# Altium footprint library 24V_Power.PcbLib: 12 footprints
Each footprint in its own frame and in the unit in brackets; x right, y up, seen from the top. Pads: shape width x height; smd on the part's side, far side on the other; paste and mask are expansions set on the pad; w line width, h text height; cw(c..) or ccw(c..) is an arc to the next point about the centre after c.
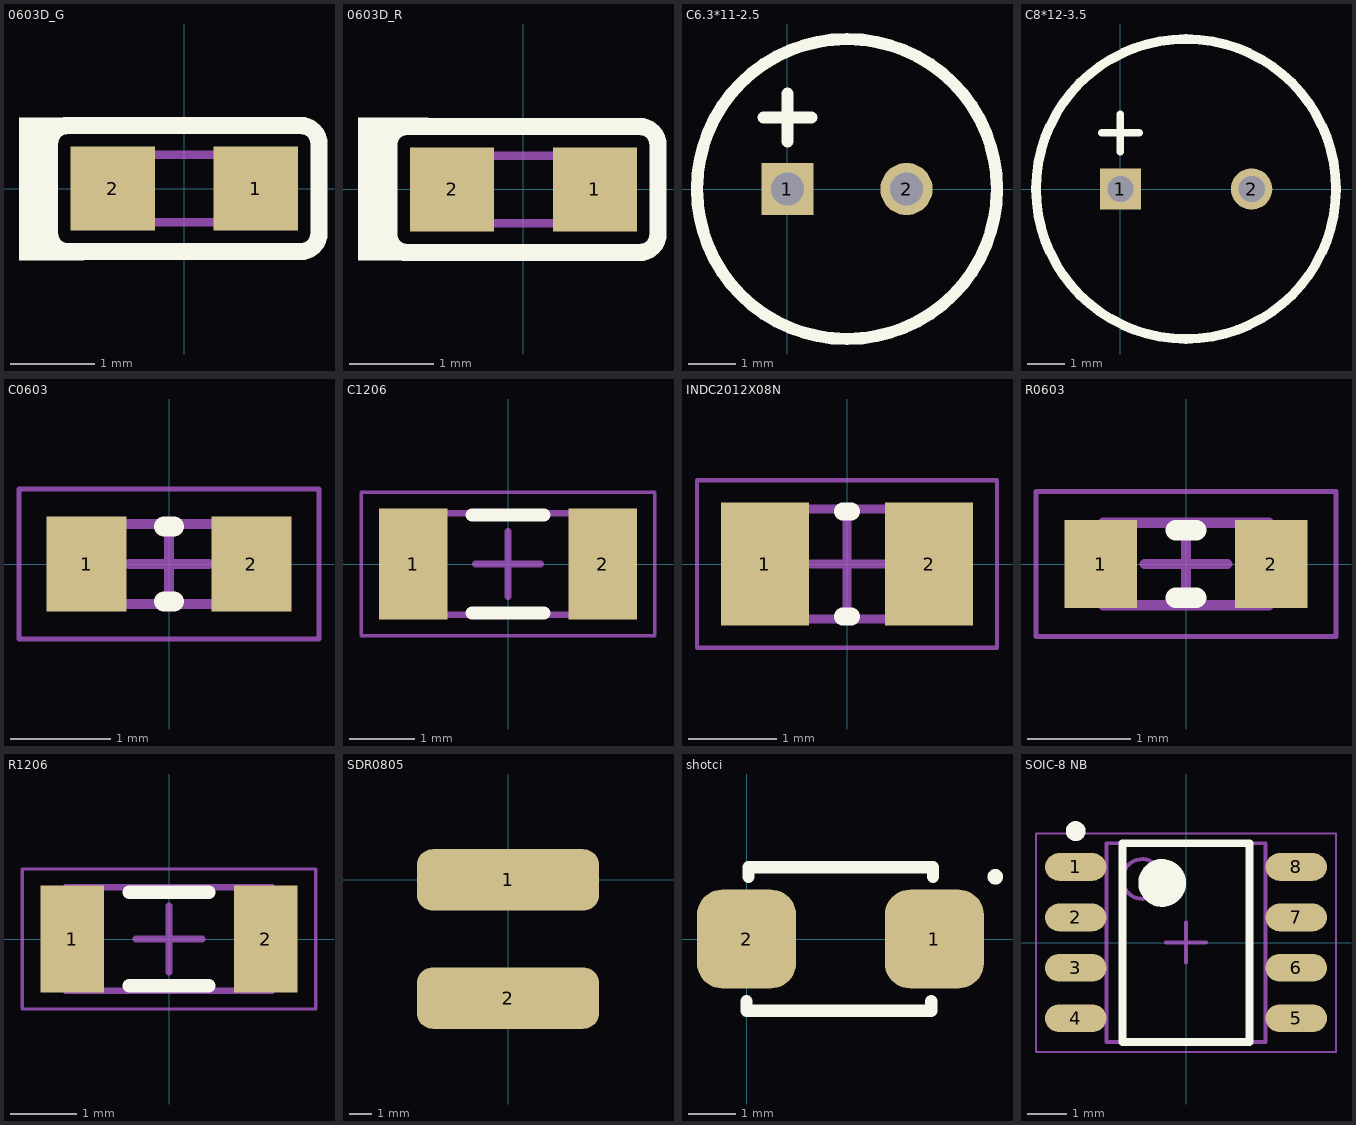
[diagram p0: the footprints below, top view; thin cyan lines are the x and y axes]

## 0603D_G [mm] "LED, SMT, Body 1.6 x 0.8 mm, 0.25mm Thickness"
height 0.25
pads (2):
  rect 1x1 smd paste+0 mask+0: 1(0.85,0) 2(-0.85,0)
Top Overlay:
  rectangle: -1.774,-0.856 -1.19,-0.691
  rectangle: -1.965,-0.856 -1.507,0.846
  rectangle: -1.774,0.66 -1.124,0.846
  lines w0.203: -1.602,-0.533 ccw(c-1.386,-0.533) -1.386,-0.749 1.386,-0.749 ccw(c1.386,-0.533) 1.602,-0.533 1.602,0.533 ccw(c1.386,0.533) 1.386,0.749 -1.386,0.749 ccw(c-1.386,0.533) -1.602,0.533 -1.602,-0.533
Mechanical 7:
  lines w0.1: -0.8,-0.4 0.8,-0.4 0.8,0.4 -0.8,0.4 -0.8,-0.4
3D body: height 0.25, standoff 0.1, extent -0.6,-0.4 0.6,0.4
3D body: height 0.2, standoff 0.15, extent -0.254,-0.254 0.254,0.254
3D body: height 0.1, standoff 0, extent -0.8,-0.4 0.8,0.4

## 0603D_R [mm] "LED, SMT, Body 1.6 x 0.8 mm, 0.25mm Thickness"
height 0.25
pads (2):
  rect 1x1 smd paste+0 mask+0: 1(0.85,0) 2(-0.85,0)
Top Overlay:
  rectangle: -1.779,0.671 -1.129,0.857
  rectangle: -1.969,-0.845 -1.512,0.857
  rectangle: -1.779,-0.845 -1.195,-0.68
  lines w0.203: -1.602,-0.533 ccw(c-1.386,-0.533) -1.386,-0.749 1.386,-0.749 ccw(c1.386,-0.533) 1.602,-0.533 1.602,0.533 ccw(c1.386,0.533) 1.386,0.749 -1.386,0.749 ccw(c-1.386,0.533) -1.602,0.533 -1.602,-0.533
Mechanical 7:
  lines w0.1: -0.8,-0.4 -0.8,0.4 0.8,0.4 0.8,-0.4 -0.8,-0.4
3D body: height 0.1, standoff 0, extent -0.8,-0.4 0.8,0.4
3D body: height 0.2, standoff 0.15, extent -0.254,-0.254 0.254,0.254
3D body: height 0.25, standoff 0.1, extent -0.6,-0.4 0.6,0.4

## C6.3*11-2.5 [mm]
pads (2):
  rect 1.1x1.1 hole 0.7: 1(0,0)
  round 1.1 hole 0.7: 2(2.5,0)
Top Overlay:
  circle w0.254: c1.25,0 r3.15
  lines w0.254: -0.5,1.5 0.5,1.5 ; 0,1 0,2
3D body "User Library-Cap-EL(6_3x11-2_5).STEP": height 11, standoff -3.2, extent -1.85,-3.149 4.452,3.149

## C8*12-3.5 [mm]
pads (2):
  rect 1.1x1.1 hole 0.7: 1(0,0)
  round 1.1 hole 0.7: 2(3.5,0)
Top Overlay:
  circle w0.254: c1.75,0 r4
  lines w0.2: -0.5,1.5 0.5,1.5 ; 0,1 0,2
3D body "User Library-Cap-EL(8x12-3_5)T.STEP": height 12.3, standoff -3.3, extent -2.251,-4 5.751,3.996

## C0603 [mm] "Chip Capacitor, 2-Leads, Body 1.60x0.80mm, IPC Medium Density"
height 0.55
pads (2):
  rect 0.8x0.95 smd: 1(-0.825,0) 2(0.825,0)
Top Overlay:
  lines w0.2: -0.05,-0.375 0.05,-0.375 ; -0.05,0.375 0.05,0.375
Mechanical 13:
  lines w0.1: -0.8,-0.4 -0.8,0.4 0.8,0.4 0.8,-0.4 -0.8,-0.4
Mechanical 15:
  lines w0.05: -1.5,-0.75 -1.5,0.75 1.5,0.75 1.5,-0.75 -1.5,-0.75
  lines w0.1: -0.4,0 0.4,0 ; 0,-0.4 0,0.4
3D body: height 0.55, standoff 0, extent -0.5,-0.4 0.5,0.4
3D body: height 0.55, standoff 0, extent -0.8,-0.4 -0.5,0.4
3D body: height 0.55, standoff 0, extent 0.5,-0.4 0.8,0.4

## C1206 [mm] "Chip Capacitor, 2-Leads, Body 3.10x1.55mm, IPC Medium Density"
height 0.8
pads (2):
  rect 1.05x1.7 smd: 1(-1.45,0) 2(1.45,0)
Top Overlay:
  lines w0.2: -0.55,-0.75 0.55,-0.75 ; -0.55,0.75 0.55,0.75
Mechanical 13:
  lines w0.1: -1.55,-0.775 -1.55,0.775 1.55,0.775 1.55,-0.775 -1.55,-0.775
Mechanical 15:
  lines w0.05: -2.25,-1.1 -2.25,1.1 2.25,1.1 2.25,-1.1 -2.25,-1.1
  lines w0.1: -0.5,0 0.5,0 ; 0,-0.5 0,0.5
3D body: height 0.8, standoff 0, extent -1,-0.775 1,0.775
3D body: height 0.8, standoff 0, extent -1.55,-0.775 -1,0.775
3D body: height 0.8, standoff 0, extent 1,-0.775 1.55,0.775

## INDC2012X08N [mm] "Chip Inductor, 2-Leads, Body 2.00x1.25mm, IPC Medium Density"
height 0.85
pads (2):
  rect 1x1.39 smd: 1(-0.93,0) 2(0.93,0)
Top Overlay:
  lines w0.2: -0.05,-0.595 0.05,-0.595 ; -0.05,0.595 0.05,0.595
Mechanical 13:
  lines w0.1: -1,-0.625 -1,0.625 1,0.625 1,-0.625 -1,-0.625
Mechanical 15:
  lines w0.05: -1.7,-0.95 -1.7,0.95 1.7,0.95 1.7,-0.95 -1.7,-0.95
  lines w0.1: -0.5,0 0.5,0 ; 0,-0.5 0,0.5
3D body: height 0.85, standoff 0, extent -0.5,-0.625 0.5,0.625
3D body: height 0.85, standoff 0, extent -1,-0.625 -0.5,0.625
3D body: height 0.85, standoff 0, extent 0.5,-0.625 1,0.625

## R0603 [mm] "Chip Resistor, 2-Leads, Body 1.60x0.80mm, IPC Medium Density"
height 0.55
pads (2):
  rect 0.7x0.85 smd: 1(-0.825,0) 2(0.825,0)
Top Overlay:
  lines w0.2: -0.1,-0.325 0.1,-0.325 ; -0.1,0.325 0.1,0.325
Mechanical 13:
  lines w0.1: -0.8,-0.4 0.8,-0.4 0.8,0.4 -0.8,0.4 -0.8,-0.4
Mechanical 15:
  lines w0.05: -1.45,-0.7 1.45,-0.7 1.45,0.7 -1.45,0.7 -1.45,-0.7
  lines w0.1: -0.4,0 0.4,0 ; 0,-0.4 0,0.4
3D body: height 0.55, standoff 0, extent 0.5,-0.4 0.8,0.4
3D body: height 0.55, standoff 0, extent -0.8,-0.4 -0.5,0.4
3D body: height 0.55, standoff 0, extent -0.5,-0.4 0.5,0.4

## R1206 [mm] "Chip Resistor, 2-Leads, Body 3.10x1.55mm, IPC Medium Density"
height 0.8
pads (2):
  rect 0.95x1.6 smd: 1(-1.45,0) 2(1.45,0)
Top Overlay:
  lines w0.2: -0.6,-0.7 0.6,-0.7 ; -0.6,0.7 0.6,0.7
Mechanical 13:
  lines w0.1: -1.55,-0.775 1.55,-0.775 1.55,0.775 -1.55,0.775 -1.55,-0.775
Mechanical 15:
  lines w0.05: -2.2,-1.05 2.2,-1.05 2.2,1.05 -2.2,1.05 -2.2,-1.05
  lines w0.1: -0.5,0 0.5,0 ; 0,-0.5 0,0.5
3D body: height 0.8, standoff 0, extent 1,-0.775 1.55,0.775
3D body: height 0.8, standoff 0, extent -1.55,-0.775 -1,0.775
3D body: height 0.8, standoff 0, extent -1,-0.775 1,0.775

## SDR0805 [mm]
pads (2):
  rrect50% 8x2.7 smd: 1(0,0) 2(0,-5.2)
3D body "User Library-SDR0805.STEP": height 5.05, standoff 0, extent -3.75,-6.277 3.75,1.077

## shotci [mm]
pads (2):
  rrect50% 2.07x2.06 smd: 1(3.925,0) 2(0,0)
Top Overlay:
  circle w0.254: c5.2,1.3 r0.035
  lines w0.254: 0,-1.3 0,-1.5 3.86,-1.5 3.86,-1.3 ; 0.04,1.3 0.04,1.5 3.9,1.5 3.9,1.3
3D body "User Library-DO-214AC(SMA).STEP": height 2.29, standoff 0.01, extent -0.743,-1.397 4.743,1.397

## SOIC-8 NB [mm] "SOIC, 8-Leads, Body 5.00x4.00mm, Pitch 1.27mm, IPC Medium Density"
height 1.75
pads (8):
  oval 1.55x0.7 smd: 1(-2.775,1.905) 2(-2.775,0.635) 3(-2.775,-0.635) 4(-2.775,-1.905) 5(2.775,-1.905) 6(2.775,-0.635) 7(2.775,0.635) 8(2.775,1.905)
Top Overlay:
  circle w0.25: c-2.775,2.805 r0.125
  circle w0.6: c-0.6,1.5 r0.3
  lines w0.2: -1.6,-2.5 -1.6,2.5 1.6,2.5 1.6,-2.5 -1.6,-2.5
Mechanical 13:
  circle w0.1: c-1.1,1.6 r0.5
  lines w0.1: -2,-2.5 -2,2.5 2,2.5 2,-2.5 -2,-2.5
Mechanical 15:
  lines w0.05: -3.775,-2.75 -3.775,2.75 3.775,2.75 3.775,-2.75 -3.775,-2.75
  lines w0.1: -0.5,0 0.5,0 ; 0,-0.5 0,0.5
3D body "User Library-SOIC-8, 3_9x4_9mm.STEP": height 2.05, standoff 0, extent -3,-2.45 3,2.45